# Altium schematic symbol library kmilo17pet-TI_BattMgmt.SchLib: 950 symbols (part 44 of 60)
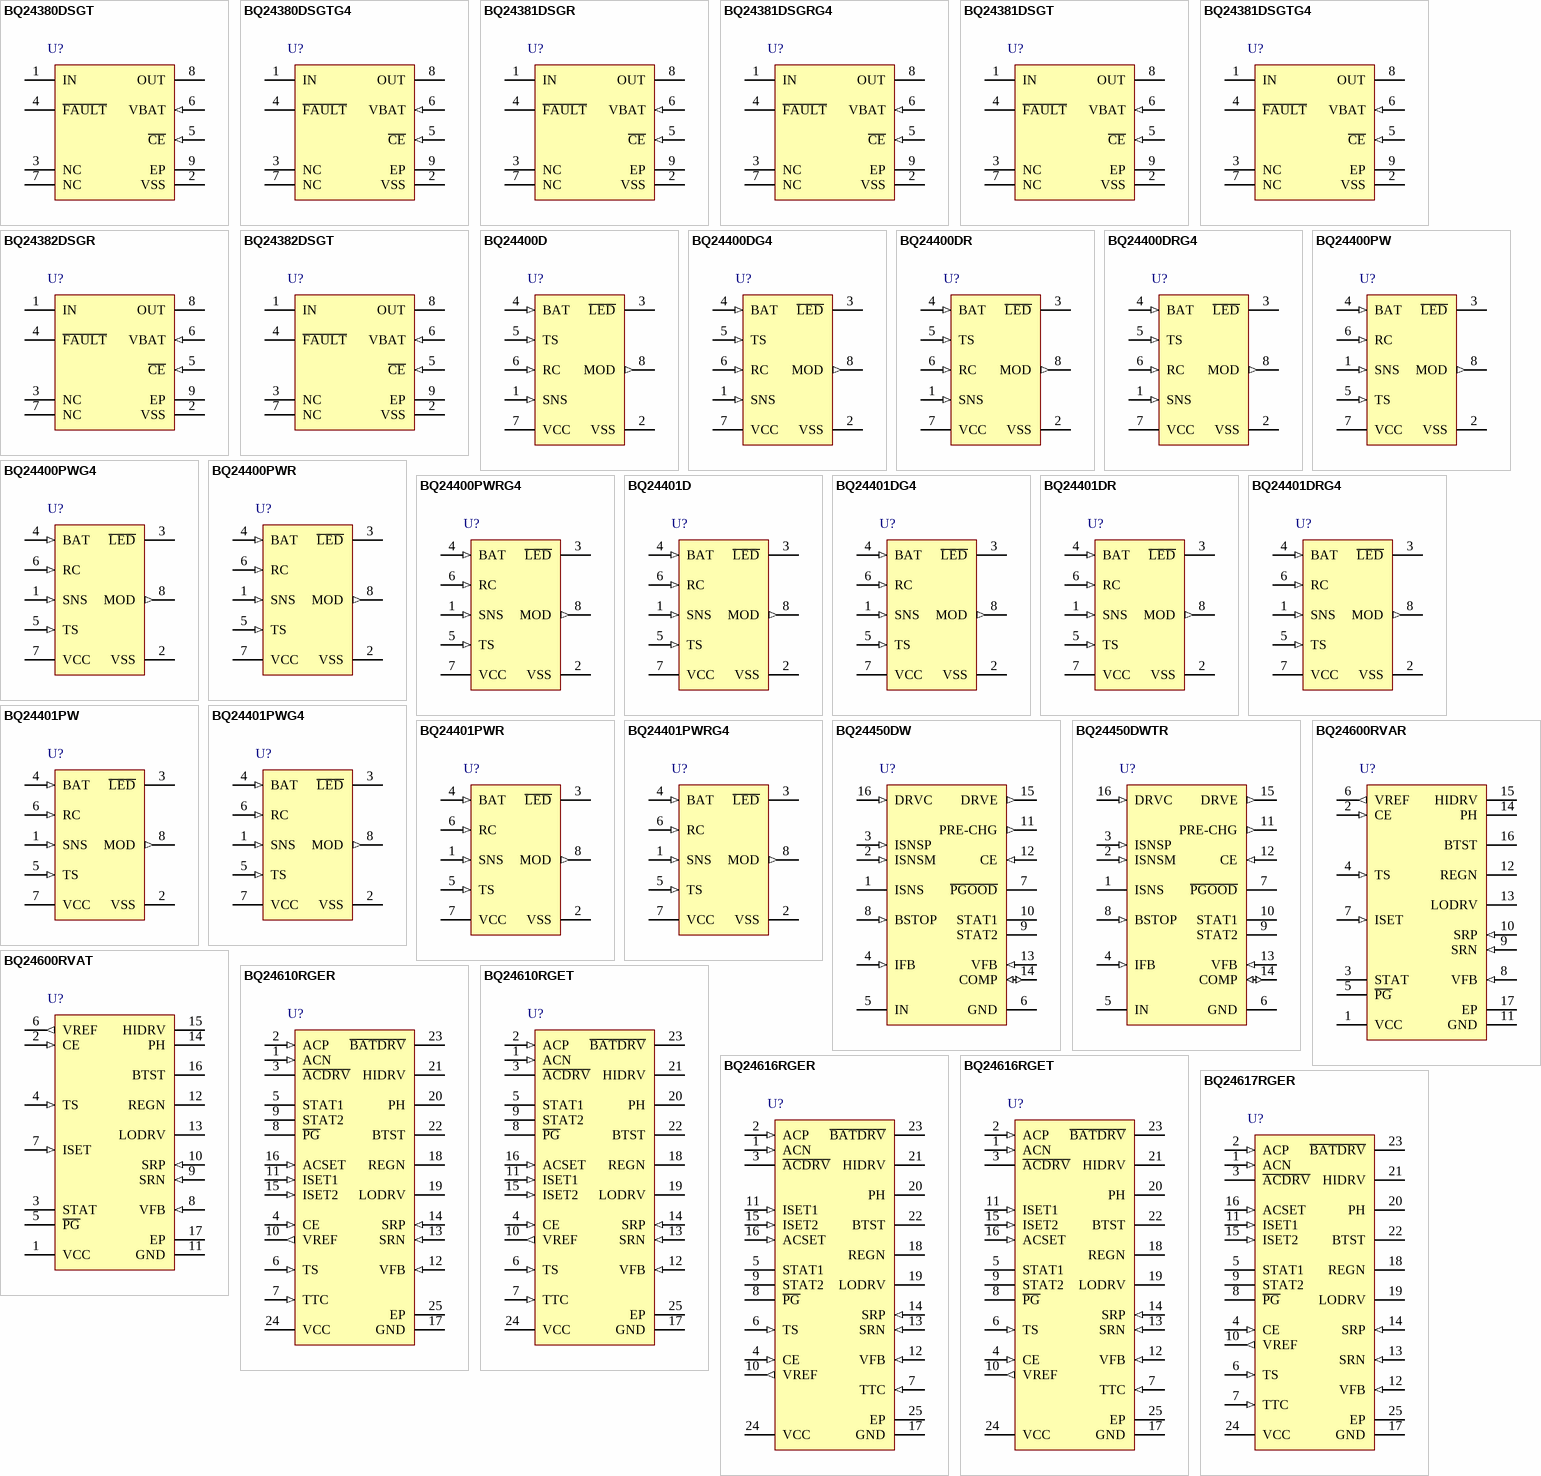
[diagram p77: symbols BQ24380DSGT to BQ24617RGER]

## BQ24381DSGT
designator U?
Overvoltage / Overcurrent Protection IC and Li+ Charger Front End Protection IC with LDO Mode, 7.1 OVP, -40 to 125 degC, 8-pin WSON (DSG), Green (RoHS & no Sb/Br); PartNumber: BQ24381DSGT; Manufacturer: Texas Instruments; Lead Acid: N; DatasheetVersion: SLUS805B; PackageVersion: revB, Oct-2010; PackageReference: DSG8-1600X900TP; PackageDescription: 8-Pin Plastic Small Outline No-Lead, 2 x 2 x 0.8 mm Body, 0.5 mm Pitch, Exposed Pad; Supplier 1: Digi-Key; Supplier Part Number 1: BQ24381DSGT-ND; Supplier Part Number 3: 595-BQ24381DSGT; Eco-Plan: Green (RoHS & no Sb/Br); Li-Ion: N; Li-Polymer: N; NiCd: N; NiMH: N; Over Voltage Protection: N; SubFamily: Charger Front End Protection; Mounting Technology: Surface Mount; Code_JEDEC: MO-229; ComponentLink1Description: Datasheet; ComponentLink1URL: http://www.ti.com/general/docs/lit/getliterature.tsp?genericPartNumber=BQ24381&fileType=pdf
footprint DSG8-1600X900TP (SON, 8-Leads, Body 2x2mm, Pitch 0.5mm, Thermal Pad 1.6x0.9mm, TI Recommended)
pins: 1 IN (power) "Input power, connected to external DC supply. Bypass IN to VSS with a ceramic capacitor (1 uF minimum)", 2 VSS (power) "Ground terminal. Connect to the thermal pad and to the ground rail of the circuit", 3 NC "Do not connect to any external circuits. These pins may have internal connections used for test purposes.", 4 ~{FAULT} (hiz) "Open-drain device status output. F\A\U\L\T\ is pulled to VSS internally when the input pass FET has been turned off due to input overvoltage or output short-circuit conditions, an overtemperature condition, or because the (See Datasheet)", 5 ~{CE} (in) "Active-low chip enable input. Connect C\E\ = HI to turn the input pass FET off. Connect C\E\ = LOW to turn the internal pass FET on and connect the input to the charging circuitry. C\E\ is Internally pulled down, ~200 k ohm.", 6 VBAT (in) "Battery voltage sense input. Connected to pack positive terminal through a 100-k ohm resistor", 7 NC "Do not connect to any external circuits. These pins may have internal connections used for test purposes.", 8 OUT (power) "Output terminal to the charging system. Bypass OUT to VSS with a ceramic capacitor (1 uF minimum)", 9 EP (power) "The thermal pad is electrically connected to VSS internally. The thermal pad must be connected to the same potential as the VSS pin on the printed circuit board. Do not use the thermal pad as the primary ground input for the (See Datasheet)"

## BQ24381DSGTG4
designator U?
Overvoltage / Overcurrent Protection IC and Li+ Charger Front End Protection IC with LDO Mode, 7.1 OVP, -40 to 125 degC, 8-pin WSON (DSG), Green (RoHS & no Sb/Br); PartNumber: BQ24381DSGTG4; Manufacturer: Texas Instruments; Lead Acid: N; DatasheetVersion: SLUS805B; PackageVersion: revB, Oct-2010; PackageReference: DSG8-1600X900TP; PackageDescription: 8-Pin Plastic Small Outline No-Lead, 2 x 2 x 0.8 mm Body, 0.5 mm Pitch, Exposed Pad; Supplier 1: Digi-Key; Supplier Part Number 1: BQ24381DSGTG4-ND; Eco-Plan: Green (RoHS & no Sb/Br); Li-Ion: N; Li-Polymer: N; NiCd: N; NiMH: N; Over Voltage Protection: N; SubFamily: Charger Front End Protection; Mounting Technology: Surface Mount; Code_JEDEC: MO-229; ComponentLink1Description: Datasheet; ComponentLink1URL: http://www.ti.com/general/docs/lit/getliterature.tsp?genericPartNumber=BQ24381&fileType=pdf
footprint DSG8-1600X900TP (SON, 8-Leads, Body 2x2mm, Pitch 0.5mm, Thermal Pad 1.6x0.9mm, TI Recommended)
pins: 1 IN (power) "Input power, connected to external DC supply. Bypass IN to VSS with a ceramic capacitor (1 uF minimum)", 2 VSS (power) "Ground terminal. Connect to the thermal pad and to the ground rail of the circuit", 3 NC "Do not connect to any external circuits. These pins may have internal connections used for test purposes.", 4 ~{FAULT} (hiz) "Open-drain device status output. F\A\U\L\T\ is pulled to VSS internally when the input pass FET has been turned off due to input overvoltage or output short-circuit conditions, an overtemperature condition, or because the (See Datasheet)", 5 ~{CE} (in) "Active-low chip enable input. Connect C\E\ = HI to turn the input pass FET off. Connect C\E\ = LOW to turn the internal pass FET on and connect the input to the charging circuitry. C\E\ is Internally pulled down, ~200 k ohm.", 6 VBAT (in) "Battery voltage sense input. Connected to pack positive terminal through a 100-k ohm resistor", 7 NC "Do not connect to any external circuits. These pins may have internal connections used for test purposes.", 8 OUT (power) "Output terminal to the charging system. Bypass OUT to VSS with a ceramic capacitor (1 uF minimum)", 9 EP (power) "The thermal pad is electrically connected to VSS internally. The thermal pad must be connected to the same potential as the VSS pin on the printed circuit board. Do not use the thermal pad as the primary ground input for the (See Datasheet)"

## BQ24382DSGR
designator U?
Overvoltage / Overcurrent Protection IC and Li+ Charger Front-End Protection IC with LDO Mode, 10.5 OVP, -40 to 125 degC, 8-pin WSON (DSG), Green (RoHS & no Sb/Br); PartNumber: BQ24382DSGR; Manufacturer: Texas Instruments; Lead Acid: N; SubFamily: Charger Front End Protection; DatasheetVersion: SLUS805B; PackageVersion: revB, Oct-2010; PackageReference: DSG8-1600X900TP; PackageDescription: 8-Pin Plastic Small Outline No-Lead, 2 x 2 x 0.8 mm Body, 0.5 mm Pitch, Exposed Pad; Supplier 1: Digi-Key; Supplier Part Number 1: 296-24248-2-ND; Supplier Part Number 3: 296-24248-6-ND; Eco-Plan: Green (RoHS & no Sb/Br); Li-Ion: N; Li-Polymer: N; NiCd: N; NiMH: N; Over Voltage Protection: N; Mounting Technology: Surface Mount; Code_JEDEC: MO-229; ComponentLink1Description: Datasheet; ComponentLink1URL: http://www.ti.com/general/docs/lit/getliterature.tsp?genericPartNumber=BQ24382&fileType=pdf
footprint DSG8-1600X900TP (SON, 8-Leads, Body 2x2mm, Pitch 0.5mm, Thermal Pad 1.6x0.9mm, TI Recommended)
pins: 1 IN (power) "Input power, connected to external DC supply. Bypass IN to VSS with a ceramic capacitor (1 uF minimum)", 2 VSS (power) "Ground terminal. Connect to the thermal pad and to the ground rail of the circuit", 3 NC "Do not connect to any external circuits. These pins may have internal connections used for test purposes.", 4 ~{FAULT} (hiz) "Open-drain device status output. F\A\U\L\T\ is pulled to VSS internally when the input pass FET has been turned off due to input overvoltage or output short-circuit conditions, an overtemperature condition, or because the (See Datasheet)", 5 ~{CE} (in) "Active-low chip enable input. Connect C\E\ = HI to turn the input pass FET off. Connect C\E\ = LOW to turn the internal pass FET on and connect the input to the charging circuitry. C\E\ is Internally pulled down, ~200 k ohm.", 6 VBAT (in) "Battery voltage sense input. Connected to pack positive terminal through a 100-k ohm resistor", 7 NC "Do not connect to any external circuits. These pins may have internal connections used for test purposes.", 8 OUT (power) "Output terminal to the charging system. Bypass OUT to VSS with a ceramic capacitor (1 uF minimum)", 9 EP (power) "The thermal pad is electrically connected to VSS internally. The thermal pad must be connected to the same potential as the VSS pin on the printed circuit board. Do not use the thermal pad as the primary ground input for the (See Datasheet)"

## BQ24382DSGT
designator U?
Overvoltage / Overcurrent Protection IC and Li+ Charger Front-End Protection IC with LDO Mode, 10.5 OVP, -40 to 125 degC, 8-pin WSON (DSG), Green (RoHS & no Sb/Br); PartNumber: BQ24382DSGT; Manufacturer: Texas Instruments; Lead Acid: N; SubFamily: Charger Front End Protection; DatasheetVersion: SLUS805B; PackageVersion: revB, Oct-2010; PackageReference: DSG8-1600X900TP; PackageDescription: 8-Pin Plastic Small Outline No-Lead, 2 x 2 x 0.8 mm Body, 0.5 mm Pitch, Exposed Pad; Supplier 1: Digi-Key; Supplier Part Number 1: BQ24382DSGT-ND; Eco-Plan: Green (RoHS & no Sb/Br); Li-Ion: N; Li-Polymer: N; NiCd: N; NiMH: N; Over Voltage Protection: N; Mounting Technology: Surface Mount; Code_JEDEC: MO-229; ComponentLink1Description: Datasheet; ComponentLink1URL: http://www.ti.com/general/docs/lit/getliterature.tsp?genericPartNumber=BQ24382&fileType=pdf
footprint DSG8-1600X900TP (SON, 8-Leads, Body 2x2mm, Pitch 0.5mm, Thermal Pad 1.6x0.9mm, TI Recommended)
pins: 1 IN (power) "Input power, connected to external DC supply. Bypass IN to VSS with a ceramic capacitor (1 uF minimum)", 2 VSS (power) "Ground terminal. Connect to the thermal pad and to the ground rail of the circuit", 3 NC "Do not connect to any external circuits. These pins may have internal connections used for test purposes.", 4 ~{FAULT} (hiz) "Open-drain device status output. F\A\U\L\T\ is pulled to VSS internally when the input pass FET has been turned off due to input overvoltage or output short-circuit conditions, an overtemperature condition, or because the (See Datasheet)", 5 ~{CE} (in) "Active-low chip enable input. Connect C\E\ = HI to turn the input pass FET off. Connect C\E\ = LOW to turn the internal pass FET on and connect the input to the charging circuitry. C\E\ is Internally pulled down, ~200 k ohm.", 6 VBAT (in) "Battery voltage sense input. Connected to pack positive terminal through a 100-k ohm resistor", 7 NC "Do not connect to any external circuits. These pins may have internal connections used for test purposes.", 8 OUT (power) "Output terminal to the charging system. Bypass OUT to VSS with a ceramic capacitor (1 uF minimum)", 9 EP (power) "The thermal pad is electrically connected to VSS internally. The thermal pad must be connected to the same potential as the VSS pin on the printed circuit board. Do not use the thermal pad as the primary ground input for the (See Datasheet)"

## BQ24400D
designator U?
Switch-Mode NiCd / NiMH Battery Charger with Peak Voltage Detection Termination, 4 V, -20 to 70 degC, 8-pin SOIC (D), Green (RoHS & no Sb/Br); PartNumber: BQ24400D; Manufacturer: Texas Instruments; Lead Acid: N; NiCd: Y; SubFamily: Battery Charge Management; Vin(Min)(V): 4; DatasheetVersion: SLUS498A; PackageVersion: revM, Jun-2011; PackageReference: D8; PackageDescription: 8-Pin Plastic Small Outline Integrated Circuit, 4.9 x 3.9 mm, Pitch 1.27 mm Pitch; Supplier 1: Digi-Key; Supplier Part Number 1: 296-12622-5-ND; Supplier Part Number 3: 595-BQ24400D; Eco-Plan: Green (RoHS & no Sb/Br); Li-Ion: N; Li-Polymer: N; NiMH: Y; Over Voltage Protection: N; Mounting Technology: Surface Mount; Code_JEDEC: MS-012AA; ComponentLink1Description: Datasheet; ComponentLink1URL: http://www.ti.com/general/docs/lit/getliterature.tsp?genericPartNumber=BQ24400&fileType=pdf
footprint D8_N (SOIC, 8-Leads, Body 4.9x3.9mm, Pitch 1.27mm, IPC Medium Density)
footprint D8_L (SOIC, 8-Leads, Body 4.9x3.9mm, Pitch 1.27mm, IPC High Density)
footprint D8_M (SOIC, 8-Leads, Body 4.9x3.9mm, Pitch 1.27mm, IPC Low Density)
pins: 1 SNS (in) "Current-sense input", 2 VSS (power) "System ground", 3 ~{LED} (hiz) "Charge-status output", 4 BAT (in) "Battery-voltage input", 5 TS (in) "Temperature-sense input", 6 RC (in) "Timer-program input", 7 VCC (power) "Supply-voltage input", 8 MOD (out) "Modulation-control output"

## BQ24400DG4
designator U?
Switch-Mode NiCd / NiMH Battery Charger with Peak Voltage Detection Termination, 4 V, -20 to 70 degC, 8-pin SOIC (D), Green (RoHS & no Sb/Br); PartNumber: BQ24400DG4; Manufacturer: Texas Instruments; Lead Acid: N; NiCd: Y; SubFamily: Battery Charge Management; Vin(Min)(V): 4; DatasheetVersion: SLUS498A; PackageVersion: revM, Jun-2011; PackageReference: D8; PackageDescription: 8-Pin Plastic Small Outline Integrated Circuit, 4.9 x 3.9 mm, Pitch 1.27 mm Pitch; Supplier 1: Digi-Key; Supplier Part Number 1: BQ24400DG4-ND; Supplier Part Number 3: 595-BQ24400DG4; Eco-Plan: Green (RoHS & no Sb/Br); Li-Ion: N; Li-Polymer: N; NiMH: Y; Over Voltage Protection: N; Mounting Technology: Surface Mount; Code_JEDEC: MS-012AA; ComponentLink1Description: Datasheet; ComponentLink1URL: http://www.ti.com/general/docs/lit/getliterature.tsp?genericPartNumber=BQ24400&fileType=pdf
footprint D8_N (SOIC, 8-Leads, Body 4.9x3.9mm, Pitch 1.27mm, IPC Medium Density)
footprint D8_L (SOIC, 8-Leads, Body 4.9x3.9mm, Pitch 1.27mm, IPC High Density)
footprint D8_M (SOIC, 8-Leads, Body 4.9x3.9mm, Pitch 1.27mm, IPC Low Density)
pins: 1 SNS (in) "Current-sense input", 2 VSS (power) "System ground", 3 ~{LED} (hiz) "Charge-status output", 4 BAT (in) "Battery-voltage input", 5 TS (in) "Temperature-sense input", 6 RC (in) "Timer-program input", 7 VCC (power) "Supply-voltage input", 8 MOD (out) "Modulation-control output"

## BQ24400DR
designator U?
Switch-Mode NiCd / NiMH Battery Charger with Peak Voltage Detection Termination, 4 V, -20 to 70 degC, 8-pin SOIC (D), Green (RoHS & no Sb/Br); PartNumber: BQ24400DR; Manufacturer: Texas Instruments; Lead Acid: N; NiCd: Y; SubFamily: Battery Charge Management; Vin(Min)(V): 4; DatasheetVersion: SLUS498A; PackageVersion: revM, Jun-2011; PackageReference: D8; PackageDescription: 8-Pin Plastic Small Outline Integrated Circuit, 4.9 x 3.9 mm, Pitch 1.27 mm Pitch; Supplier 1: Digi-Key; Supplier Part Number 1: 296-29457-2-ND; Supplier Part Number 3: 296-29457-6-ND; Eco-Plan: Green (RoHS & no Sb/Br); Li-Ion: N; Li-Polymer: N; NiMH: Y; Over Voltage Protection: N; Mounting Technology: Surface Mount; Code_JEDEC: MS-012AA; ComponentLink1Description: Datasheet; ComponentLink1URL: http://www.ti.com/general/docs/lit/getliterature.tsp?genericPartNumber=BQ24400&fileType=pdf
footprint D8_N (SOIC, 8-Leads, Body 4.9x3.9mm, Pitch 1.27mm, IPC Medium Density)
footprint D8_L (SOIC, 8-Leads, Body 4.9x3.9mm, Pitch 1.27mm, IPC High Density)
footprint D8_M (SOIC, 8-Leads, Body 4.9x3.9mm, Pitch 1.27mm, IPC Low Density)
pins: 1 SNS (in) "Current-sense input", 2 VSS (power) "System ground", 3 ~{LED} (hiz) "Charge-status output", 4 BAT (in) "Battery-voltage input", 5 TS (in) "Temperature-sense input", 6 RC (in) "Timer-program input", 7 VCC (power) "Supply-voltage input", 8 MOD (out) "Modulation-control output"

## BQ24400DRG4
designator U?
Switch-Mode NiCd / NiMH Battery Charger with Peak Voltage Detection Termination, 4 V, -20 to 70 degC, 8-pin SOIC (D), Green (RoHS & no Sb/Br); PartNumber: BQ24400DRG4; Manufacturer: Texas Instruments; Lead Acid: N; NiCd: Y; SubFamily: Battery Charge Management; Vin(Min)(V): 4; DatasheetVersion: SLUS498A; PackageVersion: revM, Jun-2011; PackageReference: D8; PackageDescription: 8-Pin Plastic Small Outline Integrated Circuit, 4.9 x 3.9 mm, Pitch 1.27 mm Pitch; Supplier 1: Digi-Key; Supplier Part Number 1: BQ24400DRG4-ND; Supplier Part Number 3: 595-BQ24400DRG4; Eco-Plan: Green (RoHS & no Sb/Br); Li-Ion: N; Li-Polymer: N; NiMH: Y; Over Voltage Protection: N; Mounting Technology: Surface Mount; Code_JEDEC: MS-012AA; ComponentLink1Description: Datasheet; ComponentLink1URL: http://www.ti.com/general/docs/lit/getliterature.tsp?genericPartNumber=BQ24400&fileType=pdf
footprint D8_N (SOIC, 8-Leads, Body 4.9x3.9mm, Pitch 1.27mm, IPC Medium Density)
footprint D8_L (SOIC, 8-Leads, Body 4.9x3.9mm, Pitch 1.27mm, IPC High Density)
footprint D8_M (SOIC, 8-Leads, Body 4.9x3.9mm, Pitch 1.27mm, IPC Low Density)
pins: 1 SNS (in) "Current-sense input", 2 VSS (power) "System ground", 3 ~{LED} (hiz) "Charge-status output", 4 BAT (in) "Battery-voltage input", 5 TS (in) "Temperature-sense input", 6 RC (in) "Timer-program input", 7 VCC (power) "Supply-voltage input", 8 MOD (out) "Modulation-control output"

## BQ24400PW
designator U?
Switch-Mode NiCd / NiMH Battery Charger with Peak Voltage Detection Termination, 4 V, -20 to 70 degC, 8-pin TSSOP (PW), Green (RoHS & no Sb/Br); PartNumber: BQ24400PW; Manufacturer: Texas Instruments; Lead Acid: N; NiCd: Y; SubFamily: Battery Charge Management; Vin(Min)(V): 4; DatasheetVersion: SLUS498A; PackageVersion: revG, Feb-2011; PackageReference: PW8; PackageDescription: 8-Pin Plastic Thin Small Outline Package 3 x 4.4 mm Body ,0.65 mm Pitch; Supplier 1: Digi-Key; Supplier Part Number 1: 296-12623-5-ND; Supplier Part Number 3: 595-BQ24400PW; Eco-Plan: Green (RoHS & no Sb/Br); Li-Ion: N; Li-Polymer: N; NiMH: Y; Over Voltage Protection: N; Mounting Technology: Surface Mount; Code_JEDEC: MO-153; ComponentLink1Description: Datasheet; ComponentLink1URL: http://www.ti.com/general/docs/lit/getliterature.tsp?genericPartNumber=BQ24400&fileType=pdf
footprint PW8_N (TSOP, 8-Leads, Body 3x4.4mm, Pitch 0.65mm, IPC Medium Density)
footprint PW8_L (TSOP, 8-Leads, Body 3x4.4mm, Pitch 0.65mm, IPC High Density)
footprint PW8_M (TSOP, 8-Leads, Body 3x4.4mm, Pitch 0.65mm, IPC Low Density)
pins: 1 SNS (in) "Current-sense input", 2 VSS (power) "System ground", 3 ~{LED} (hiz) "Charge-status output", 4 BAT (in) "Battery-voltage input", 5 TS (in) "Temperature-sense input", 6 RC (in) "Timer-program input", 7 VCC (power) "Supply-voltage input", 8 MOD (out) "Modulation-control output"

## BQ24400PWG4
designator U?
Switch-Mode NiCd / NiMH Battery Charger with Peak Voltage Detection Termination, 4 V, -20 to 70 degC, 8-pin TSSOP (PW), Green (RoHS & no Sb/Br); PartNumber: BQ24400PWG4; Manufacturer: Texas Instruments; Lead Acid: N; NiCd: Y; SubFamily: Battery Charge Management; Vin(Min)(V): 4; DatasheetVersion: SLUS498A; PackageVersion: revG, Feb-2011; PackageReference: PW8; PackageDescription: 8-Pin Plastic Thin Small Outline Package 3 x 4.4 mm Body ,0.65 mm Pitch; Supplier 1: Digi-Key; Supplier Part Number 1: BQ24400PWG4-ND; Supplier Part Number 3: 595-BQ24400PWG4; Eco-Plan: Green (RoHS & no Sb/Br); Li-Ion: N; Li-Polymer: N; NiMH: Y; Over Voltage Protection: N; Mounting Technology: Surface Mount; Code_JEDEC: MO-153; ComponentLink1Description: Datasheet; ComponentLink1URL: http://www.ti.com/general/docs/lit/getliterature.tsp?genericPartNumber=BQ24400&fileType=pdf
footprint PW8_N (TSOP, 8-Leads, Body 3x4.4mm, Pitch 0.65mm, IPC Medium Density)
footprint PW8_L (TSOP, 8-Leads, Body 3x4.4mm, Pitch 0.65mm, IPC High Density)
footprint PW8_M (TSOP, 8-Leads, Body 3x4.4mm, Pitch 0.65mm, IPC Low Density)
pins: 1 SNS (in) "Current-sense input", 2 VSS (power) "System ground", 3 ~{LED} (hiz) "Charge-status output", 4 BAT (in) "Battery-voltage input", 5 TS (in) "Temperature-sense input", 6 RC (in) "Timer-program input", 7 VCC (power) "Supply-voltage input", 8 MOD (out) "Modulation-control output"

## BQ24400PWR
designator U?
Switch-Mode NiCd / NiMH Battery Charger with Peak Voltage Detection Termination, 4 V, -20 to 70 degC, 8-pin TSSOP (PW), Green (RoHS & no Sb/Br); PartNumber: BQ24400PWR; Manufacturer: Texas Instruments; Lead Acid: N; NiCd: Y; SubFamily: Battery Charge Management; Vin(Min)(V): 4; DatasheetVersion: SLUS498A; PackageVersion: revG, Feb-2011; PackageReference: PW8; PackageDescription: 8-Pin Plastic Thin Small Outline Package 3 x 4.4 mm Body ,0.65 mm Pitch; Supplier 1: Digi-Key; Supplier Part Number 1: BQ24400PWR-ND; Supplier Part Number 3: 595-BQ24400PWR; Eco-Plan: Green (RoHS & no Sb/Br); Li-Ion: N; Li-Polymer: N; NiMH: Y; Over Voltage Protection: N; Mounting Technology: Surface Mount; Code_JEDEC: MO-153; ComponentLink1Description: Datasheet; ComponentLink1URL: http://www.ti.com/general/docs/lit/getliterature.tsp?genericPartNumber=BQ24400&fileType=pdf
footprint PW8_N (TSOP, 8-Leads, Body 3x4.4mm, Pitch 0.65mm, IPC Medium Density)
footprint PW8_L (TSOP, 8-Leads, Body 3x4.4mm, Pitch 0.65mm, IPC High Density)
footprint PW8_M (TSOP, 8-Leads, Body 3x4.4mm, Pitch 0.65mm, IPC Low Density)
pins: 1 SNS (in) "Current-sense input", 2 VSS (power) "System ground", 3 ~{LED} (hiz) "Charge-status output", 4 BAT (in) "Battery-voltage input", 5 TS (in) "Temperature-sense input", 6 RC (in) "Timer-program input", 7 VCC (power) "Supply-voltage input", 8 MOD (out) "Modulation-control output"

## BQ24400PWRG4
designator U?
Switch-Mode NiCd / NiMH Battery Charger with Peak Voltage Detection Termination, 4 V, -20 to 70 degC, 8-pin TSSOP (PW), Green (RoHS & no Sb/Br); PartNumber: BQ24400PWRG4; Manufacturer: Texas Instruments; Lead Acid: N; NiCd: Y; SubFamily: Battery Charge Management; Vin(Min)(V): 4; DatasheetVersion: SLUS498A; PackageVersion: revG, Feb-2011; PackageReference: PW8; PackageDescription: 8-Pin Plastic Thin Small Outline Package 3 x 4.4 mm Body ,0.65 mm Pitch; Supplier 1: Digi-Key; Supplier Part Number 1: BQ24400PWRG4-ND; Supplier Part Number 3: 595-BQ24400PWRG4; Eco-Plan: Green (RoHS & no Sb/Br); Li-Ion: N; Li-Polymer: N; NiMH: Y; Over Voltage Protection: N; Mounting Technology: Surface Mount; Code_JEDEC: MO-153; ComponentLink1Description: Datasheet; ComponentLink1URL: http://www.ti.com/general/docs/lit/getliterature.tsp?genericPartNumber=BQ24400&fileType=pdf
footprint PW8_N (TSOP, 8-Leads, Body 3x4.4mm, Pitch 0.65mm, IPC Medium Density)
footprint PW8_L (TSOP, 8-Leads, Body 3x4.4mm, Pitch 0.65mm, IPC High Density)
footprint PW8_M (TSOP, 8-Leads, Body 3x4.4mm, Pitch 0.65mm, IPC Low Density)
pins: 1 SNS (in) "Current-sense input", 2 VSS (power) "System ground", 3 ~{LED} (hiz) "Charge-status output", 4 BAT (in) "Battery-voltage input", 5 TS (in) "Temperature-sense input", 6 RC (in) "Timer-program input", 7 VCC (power) "Supply-voltage input", 8 MOD (out) "Modulation-control output"

## BQ24401D
designator U?
Switch-Mode NiCd / NiMH Battery Charger with dT / dt Termination, 4 V, -20 to 70 degC, 8-pin SOIC (D), Green (RoHS & no Sb/Br); PartNumber: BQ24401D; Manufacturer: Texas Instruments; Lead Acid: N; NiCd: Y; SubFamily: Battery Charge Management; Vin(Min)(V): 4; DatasheetVersion: SLUS497A; PackageVersion: revM, Jun-2011; PackageReference: D8; PackageDescription: 8-Pin Plastic Small Outline Integrated Circuit, 4.9 x 3.9 mm, Pitch 1.27 mm Pitch; Supplier 1: Digi-Key; Supplier Part Number 1: 296-12624-5-ND; Supplier Part Number 3: 595-BQ24401D; Eco-Plan: Green (RoHS & no Sb/Br); Li-Ion: N; Li-Polymer: N; NiMH: Y; Over Voltage Protection: N; Mounting Technology: Surface Mount; Code_JEDEC: MS-012AA; ComponentLink1Description: Datasheet; ComponentLink1URL: http://www.ti.com/general/docs/lit/getliterature.tsp?genericPartNumber=BQ24401&fileType=pdf
footprint D8_N (SOIC, 8-Leads, Body 4.9x3.9mm, Pitch 1.27mm, IPC Medium Density)
footprint D8_L (SOIC, 8-Leads, Body 4.9x3.9mm, Pitch 1.27mm, IPC High Density)
footprint D8_M (SOIC, 8-Leads, Body 4.9x3.9mm, Pitch 1.27mm, IPC Low Density)
pins: 1 SNS (in) "Current-sense input", 2 VSS (power) "System ground", 3 ~{LED} (hiz) "Charge-status output", 4 BAT (in) "Battery-voltage input", 5 TS (in) "Temperature-sense input", 6 RC (in) "Timer-program input", 7 VCC (power) "Supply-voltage input", 8 MOD (out) "Modulation-control output"

## BQ24401DG4
designator U?
Switch-Mode NiCd / NiMH Battery Charger with dT / dt Termination, 4 V, -20 to 70 degC, 8-pin SOIC (D), Green (RoHS & no Sb/Br); PartNumber: BQ24401DG4; Manufacturer: Texas Instruments; Lead Acid: N; NiCd: Y; SubFamily: Battery Charge Management; Vin(Min)(V): 4; DatasheetVersion: SLUS497A; PackageVersion: revM, Jun-2011; PackageReference: D8; PackageDescription: 8-Pin Plastic Small Outline Integrated Circuit, 4.9 x 3.9 mm, Pitch 1.27 mm Pitch; Supplier 1: Digi-Key; Supplier Part Number 1: BQ24401DG4-ND; Supplier Part Number 3: 595-BQ24401DG4; Eco-Plan: Green (RoHS & no Sb/Br); Li-Ion: N; Li-Polymer: N; NiMH: Y; Over Voltage Protection: N; Mounting Technology: Surface Mount; Code_JEDEC: MS-012AA; ComponentLink1Description: Datasheet; ComponentLink1URL: http://www.ti.com/general/docs/lit/getliterature.tsp?genericPartNumber=BQ24401&fileType=pdf
footprint D8_N (SOIC, 8-Leads, Body 4.9x3.9mm, Pitch 1.27mm, IPC Medium Density)
footprint D8_L (SOIC, 8-Leads, Body 4.9x3.9mm, Pitch 1.27mm, IPC High Density)
footprint D8_M (SOIC, 8-Leads, Body 4.9x3.9mm, Pitch 1.27mm, IPC Low Density)
pins: 1 SNS (in) "Current-sense input", 2 VSS (power) "System ground", 3 ~{LED} (hiz) "Charge-status output", 4 BAT (in) "Battery-voltage input", 5 TS (in) "Temperature-sense input", 6 RC (in) "Timer-program input", 7 VCC (power) "Supply-voltage input", 8 MOD (out) "Modulation-control output"

## BQ24401DR
designator U?
Switch-Mode NiCd / NiMH Battery Charger with dT / dt Termination, 4 V, -20 to 70 degC, 8-pin SOIC (D), Green (RoHS & no Sb/Br); PartNumber: BQ24401DR; Manufacturer: Texas Instruments; Lead Acid: N; NiCd: Y; SubFamily: Battery Charge Management; Vin(Min)(V): 4; DatasheetVersion: SLUS497A; PackageVersion: revM, Jun-2011; PackageReference: D8; PackageDescription: 8-Pin Plastic Small Outline Integrated Circuit, 4.9 x 3.9 mm, Pitch 1.27 mm Pitch; Supplier 1: Digi-Key; Supplier Part Number 1: BQ24401DR-ND; Supplier Part Number 3: 595-BQ24401DR; Eco-Plan: Green (RoHS & no Sb/Br); Li-Ion: N; Li-Polymer: N; NiMH: Y; Over Voltage Protection: N; Mounting Technology: Surface Mount; Code_JEDEC: MS-012AA; ComponentLink1Description: Datasheet; ComponentLink1URL: http://www.ti.com/general/docs/lit/getliterature.tsp?genericPartNumber=BQ24401&fileType=pdf
footprint D8_N (SOIC, 8-Leads, Body 4.9x3.9mm, Pitch 1.27mm, IPC Medium Density)
footprint D8_L (SOIC, 8-Leads, Body 4.9x3.9mm, Pitch 1.27mm, IPC High Density)
footprint D8_M (SOIC, 8-Leads, Body 4.9x3.9mm, Pitch 1.27mm, IPC Low Density)
pins: 1 SNS (in) "Current-sense input", 2 VSS (power) "System ground", 3 ~{LED} (hiz) "Charge-status output", 4 BAT (in) "Battery-voltage input", 5 TS (in) "Temperature-sense input", 6 RC (in) "Timer-program input", 7 VCC (power) "Supply-voltage input", 8 MOD (out) "Modulation-control output"

## BQ24401DRG4
designator U?
Switch-Mode NiCd / NiMH Battery Charger with dT / dt Termination, 4 V, -20 to 70 degC, 8-pin SOIC (D), Green (RoHS & no Sb/Br); PartNumber: BQ24401DRG4; Manufacturer: Texas Instruments; Lead Acid: N; NiCd: Y; SubFamily: Battery Charge Management; Vin(Min)(V): 4; DatasheetVersion: SLUS497A; PackageVersion: revM, Jun-2011; PackageReference: D8; PackageDescription: 8-Pin Plastic Small Outline Integrated Circuit, 4.9 x 3.9 mm, Pitch 1.27 mm Pitch; Supplier 1: Digi-Key; Supplier Part Number 1: BQ24401DRG4-ND; Supplier Part Number 3: 595-BQ24401DRG4; Eco-Plan: Green (RoHS & no Sb/Br); Li-Ion: N; Li-Polymer: N; NiMH: Y; Over Voltage Protection: N; Mounting Technology: Surface Mount; Code_JEDEC: MS-012AA; ComponentLink1Description: Datasheet; ComponentLink1URL: http://www.ti.com/general/docs/lit/getliterature.tsp?genericPartNumber=BQ24401&fileType=pdf
footprint D8_N (SOIC, 8-Leads, Body 4.9x3.9mm, Pitch 1.27mm, IPC Medium Density)
footprint D8_L (SOIC, 8-Leads, Body 4.9x3.9mm, Pitch 1.27mm, IPC High Density)
footprint D8_M (SOIC, 8-Leads, Body 4.9x3.9mm, Pitch 1.27mm, IPC Low Density)
pins: 1 SNS (in) "Current-sense input", 2 VSS (power) "System ground", 3 ~{LED} (hiz) "Charge-status output", 4 BAT (in) "Battery-voltage input", 5 TS (in) "Temperature-sense input", 6 RC (in) "Timer-program input", 7 VCC (power) "Supply-voltage input", 8 MOD (out) "Modulation-control output"

## BQ24401PW
designator U?
Switch-Mode NiCd / NiMH Battery Charger with dT / dt Termination, 4 V, -20 to 70 degC, 8-pin TSSOP (PW), Green (RoHS & no Sb/Br); PartNumber: BQ24401PW; Manufacturer: Texas Instruments; Lead Acid: N; NiCd: Y; SubFamily: Battery Charge Management; Vin(Min)(V): 4; DatasheetVersion: SLUS497A; PackageVersion: revG, Feb-2011; PackageReference: PW8; PackageDescription: 8-Pin Plastic Thin Small Outline Package 3 x 4.4 mm Body ,0.65 mm Pitch; Supplier 1: Digi-Key; Supplier Part Number 1: 296-12625-5-ND; Supplier Part Number 3: 595-BQ24401PW; Eco-Plan: Green (RoHS & no Sb/Br); Li-Ion: N; Li-Polymer: N; NiMH: Y; Over Voltage Protection: N; Mounting Technology: Surface Mount; Code_JEDEC: MO-153; ComponentLink1Description: Datasheet; ComponentLink1URL: http://www.ti.com/general/docs/lit/getliterature.tsp?genericPartNumber=BQ24401&fileType=pdf
footprint PW8_N (TSOP, 8-Leads, Body 3x4.4mm, Pitch 0.65mm, IPC Medium Density)
footprint PW8_L (TSOP, 8-Leads, Body 3x4.4mm, Pitch 0.65mm, IPC High Density)
footprint PW8_M (TSOP, 8-Leads, Body 3x4.4mm, Pitch 0.65mm, IPC Low Density)
pins: 1 SNS (in) "Current-sense input", 2 VSS (power) "System ground", 3 ~{LED} (hiz) "Charge-status output", 4 BAT (in) "Battery-voltage input", 5 TS (in) "Temperature-sense input", 6 RC (in) "Timer-program input", 7 VCC (power) "Supply-voltage input", 8 MOD (out) "Modulation-control output"

## BQ24401PWG4
designator U?
Switch-Mode NiCd / NiMH Battery Charger with dT / dt Termination, 4 V, -20 to 70 degC, 8-pin TSSOP (PW), Green (RoHS & no Sb/Br); PartNumber: BQ24401PWG4; Manufacturer: Texas Instruments; Lead Acid: N; NiCd: Y; SubFamily: Battery Charge Management; Vin(Min)(V): 4; DatasheetVersion: SLUS497A; PackageVersion: revG, Feb-2011; PackageReference: PW8; PackageDescription: 8-Pin Plastic Thin Small Outline Package 3 x 4.4 mm Body ,0.65 mm Pitch; Supplier 1: Digi-Key; Supplier Part Number 1: BQ24401PWG4-ND; Supplier Part Number 3: 595-BQ24401PWG4; Eco-Plan: Green (RoHS & no Sb/Br); Li-Ion: N; Li-Polymer: N; NiMH: Y; Over Voltage Protection: N; Mounting Technology: Surface Mount; Code_JEDEC: MO-153; ComponentLink1Description: Datasheet; ComponentLink1URL: http://www.ti.com/general/docs/lit/getliterature.tsp?genericPartNumber=BQ24401&fileType=pdf
footprint PW8_N (TSOP, 8-Leads, Body 3x4.4mm, Pitch 0.65mm, IPC Medium Density)
footprint PW8_L (TSOP, 8-Leads, Body 3x4.4mm, Pitch 0.65mm, IPC High Density)
footprint PW8_M (TSOP, 8-Leads, Body 3x4.4mm, Pitch 0.65mm, IPC Low Density)
pins: 1 SNS (in) "Current-sense input", 2 VSS (power) "System ground", 3 ~{LED} (hiz) "Charge-status output", 4 BAT (in) "Battery-voltage input", 5 TS (in) "Temperature-sense input", 6 RC (in) "Timer-program input", 7 VCC (power) "Supply-voltage input", 8 MOD (out) "Modulation-control output"

## BQ24401PWR
designator U?
Switch-Mode NiCd / NiMH Battery Charger with dT / dt Termination, 4 V, -20 to 70 degC, 8-pin TSSOP (PW), Green (RoHS & no Sb/Br); PartNumber: BQ24401PWR; Manufacturer: Texas Instruments; Lead Acid: N; NiCd: Y; SubFamily: Battery Charge Management; Vin(Min)(V): 4; DatasheetVersion: SLUS497A; PackageVersion: revG, Feb-2011; PackageReference: PW8; PackageDescription: 8-Pin Plastic Thin Small Outline Package 3 x 4.4 mm Body ,0.65 mm Pitch; Supplier 1: Digi-Key; Supplier Part Number 1: BQ24401PWR-ND; Supplier Part Number 3: 595-BQ24401PWR; Eco-Plan: Green (RoHS & no Sb/Br); Li-Ion: N; Li-Polymer: N; NiMH: Y; Over Voltage Protection: N; Mounting Technology: Surface Mount; Code_JEDEC: MO-153; ComponentLink1Description: Datasheet; ComponentLink1URL: http://www.ti.com/general/docs/lit/getliterature.tsp?genericPartNumber=BQ24401&fileType=pdf
footprint PW8_N (TSOP, 8-Leads, Body 3x4.4mm, Pitch 0.65mm, IPC Medium Density)
footprint PW8_L (TSOP, 8-Leads, Body 3x4.4mm, Pitch 0.65mm, IPC High Density)
footprint PW8_M (TSOP, 8-Leads, Body 3x4.4mm, Pitch 0.65mm, IPC Low Density)
pins: 1 SNS (in) "Current-sense input", 2 VSS (power) "System ground", 3 ~{LED} (hiz) "Charge-status output", 4 BAT (in) "Battery-voltage input", 5 TS (in) "Temperature-sense input", 6 RC (in) "Timer-program input", 7 VCC (power) "Supply-voltage input", 8 MOD (out) "Modulation-control output"

## BQ24401PWRG4
designator U?
Switch-Mode NiCd / NiMH Battery Charger with dT / dt Termination, 4 V, -20 to 70 degC, 8-pin TSSOP (PW), Green (RoHS & no Sb/Br); PartNumber: BQ24401PWRG4; Manufacturer: Texas Instruments; Lead Acid: N; NiCd: Y; SubFamily: Battery Charge Management; Vin(Min)(V): 4; DatasheetVersion: SLUS497A; PackageVersion: revG, Feb-2011; PackageReference: PW8; PackageDescription: 8-Pin Plastic Thin Small Outline Package 3 x 4.4 mm Body ,0.65 mm Pitch; Supplier 1: Digi-Key; Supplier Part Number 1: BQ24401PWRG4-ND; Supplier Part Number 3: 595-BQ24401PWRG4; Eco-Plan: Green (RoHS & no Sb/Br); Li-Ion: N; Li-Polymer: N; NiMH: Y; Over Voltage Protection: N; Mounting Technology: Surface Mount; Code_JEDEC: MO-153; ComponentLink1Description: Datasheet; ComponentLink1URL: http://www.ti.com/general/docs/lit/getliterature.tsp?genericPartNumber=BQ24401&fileType=pdf
footprint PW8_N (TSOP, 8-Leads, Body 3x4.4mm, Pitch 0.65mm, IPC Medium Density)
footprint PW8_L (TSOP, 8-Leads, Body 3x4.4mm, Pitch 0.65mm, IPC High Density)
footprint PW8_M (TSOP, 8-Leads, Body 3x4.4mm, Pitch 0.65mm, IPC Low Density)
pins: 1 SNS (in) "Current-sense input", 2 VSS (power) "System ground", 3 ~{LED} (hiz) "Charge-status output", 4 BAT (in) "Battery-voltage input", 5 TS (in) "Temperature-sense input", 6 RC (in) "Timer-program input", 7 VCC (power) "Supply-voltage input", 8 MOD (out) "Modulation-control output"

## BQ24450DW
designator U?
Integrated Charge Controller for Lead-Acid Batteries, 5 V, 16-pin SOIC (DW), Green (RoHS & no Sb/Br); PartNumber: BQ24450DW; Manufacturer: Texas Instruments; Lead Acid: N; SubFamily: Battery Charge Management; Vin(Min)(V): 5; DatasheetVersion: SLUS929C; PackageVersion: revG, Jan-2011; PackageReference: DW16; PackageDescription: 16-Pin Small Outline Integrated Circuit, 10.3 x 7.5 mm, Pitch 1.27 mm Pitch; Supplier 1: Digi-Key; Supplier Part Number 1: 296-32836-5-ND; Supplier Part Number 3: 50R4985; Eco-Plan: Green (RoHS & no Sb/Br); Li-Ion: N; Li-Polymer: N; NiCd: N; NiMH: N; Over Voltage Protection: N; Mounting Technology: Surface Mount; Code_JEDEC: MS-013-AA; ComponentLink1Description: Datasheet; ComponentLink1URL: http://www.ti.com/general/docs/lit/getliterature.tsp?genericPartNumber=BQ24450&fileType=pdf
footprint DW16_N (SOIC, 16-Leads, Body 10.3x7.5mm, Pitch 1.27mm, IPC Medium Density)
footprint DW16_L (SOIC, 16-Leads, Body 10.3x7.5mm, Pitch 1.27mm, IPC High Density)
footprint DW16_M (SOIC, 16-Leads, Body 10.3x7.5mm, Pitch 1.27mm, IPC Low Density)
pins: 1 ISNS (oc) "Output of the current-sense comparator. Open-Collector.", 2 ISNSM (in) "Negative input of the current-sense comparator.", 3 ISNSP (in) "Positive input of the current-sense comparator.", 4 IFB (in) "Input for the current-regulating loop. External resistor between IN and IFB sets the charging current value.", 5 IN (power) "Supply voltage pin. Connect to external DC source.", 6 GND (power) "Ground terminal.", 7 ~{PGOOD} (oc) "Open-collector output, indicates supply status at IN pin. Active low.", 8 BSTOP (in) "Control input. Taking this pin from low to high transitions the charger from Boost Mode to Float Mode. Internally pulled up through a 10uA current source.", 9 STAT2 (hiz) "Open-collector status outputs. See table below.", 10 STAT1 (hiz) "Open-collector status outputs. See table below.", 11 PRE-CHG (out) "Can be used to trickle-charge the battery till its voltage rises to a safe value. PRE-CHG will source current as long as the control voltage on the CE pin is below VREF. If using, connect to battery pack through external (See Datasheet)", 12 CE (in) "Charge enable control. If the voltage on the CE pin is below VREF, the driver transistor will be off and the PRE-CHG pin will source current.", 13 VFB (in) "Voltage feedback pin. Connect to battery through external resistive divider.", 14 COMP (io) "Compensation terminal for voltage loop. Connect a capacitor from this pin to GND.", 15 DRVE (out) "Emitter of the internal (NPN) driver transistor.", 16 DRVC (in) "Collector of the internal (NPN) driver transistor."

## BQ24450DWTR
designator U?
Integrated Charge Controller for Lead-Acid Batteries, 5 V, 16-pin SOIC (DW), Green (RoHS & no Sb/Br); PartNumber: BQ24450DWTR; Manufacturer: Texas Instruments; Lead Acid: N; SubFamily: Battery Charge Management; Vin(Min)(V): 5; DatasheetVersion: SLUS929C; PackageVersion: revG, Jan-2011; PackageReference: DW16; PackageDescription: 16-Pin Small Outline Integrated Circuit, 10.3 x 7.5 mm, Pitch 1.27 mm Pitch; Supplier 1: Digi-Key; Supplier Part Number 1: 296-24367-2-ND; Supplier Part Number 3: 296-24367-6-ND; Eco-Plan: Green (RoHS & no Sb/Br); Li-Ion: N; Li-Polymer: N; NiCd: N; NiMH: N; Over Voltage Protection: N; Mounting Technology: Surface Mount; Code_JEDEC: MS-013-AA; ComponentLink1Description: Datasheet; ComponentLink1URL: http://www.ti.com/general/docs/lit/getliterature.tsp?genericPartNumber=BQ24450&fileType=pdf
footprint DW16_N (SOIC, 16-Leads, Body 10.3x7.5mm, Pitch 1.27mm, IPC Medium Density)
footprint DW16_L (SOIC, 16-Leads, Body 10.3x7.5mm, Pitch 1.27mm, IPC High Density)
footprint DW16_M (SOIC, 16-Leads, Body 10.3x7.5mm, Pitch 1.27mm, IPC Low Density)
pins: 1 ISNS (oc) "Output of the current-sense comparator. Open-Collector.", 2 ISNSM (in) "Negative input of the current-sense comparator.", 3 ISNSP (in) "Positive input of the current-sense comparator.", 4 IFB (in) "Input for the current-regulating loop. External resistor between IN and IFB sets the charging current value.", 5 IN (power) "Supply voltage pin. Connect to external DC source.", 6 GND (power) "Ground terminal.", 7 ~{PGOOD} (oc) "Open-collector output, indicates supply status at IN pin. Active low.", 8 BSTOP (in) "Control input. Taking this pin from low to high transitions the charger from Boost Mode to Float Mode. Internally pulled up through a 10uA current source.", 9 STAT2 (hiz) "Open-collector status outputs. See table below.", 10 STAT1 (hiz) "Open-collector status outputs. See table below.", 11 PRE-CHG (out) "Can be used to trickle-charge the battery till its voltage rises to a safe value. PRE-CHG will source current as long as the control voltage on the CE pin is below VREF. If using, connect to battery pack through external (See Datasheet)", 12 CE (in) "Charge enable control. If the voltage on the CE pin is below VREF, the driver transistor will be off and the PRE-CHG pin will source current.", 13 VFB (in) "Voltage feedback pin. Connect to battery through external resistive divider.", 14 COMP (io) "Compensation terminal for voltage loop. Connect a capacitor from this pin to GND.", 15 DRVE (out) "Emitter of the internal (NPN) driver transistor.", 16 DRVC (in) "Collector of the internal (NPN) driver transistor."

## BQ24600RVAR
designator U?
Standalone Synchronous Switch-Mode Charge Controller, 5 V, -40 to 85 degC, 16-pin VQFN (RVA), Green (RoHS & no Sb/Br); PartNumber: BQ24600RVAR; Manufacturer: Texas Instruments; Lead Acid: N; SubFamily: Battery Charge Management; Vin(Min)(V): 5; DatasheetVersion: SLUS891A; PackageVersion: revC, May-2011; PackageReference: RVA16-2140X2140TP; PackageDescription: 16-Pin Plastic Quad Flatpack No-Lead, 3.5 x 3.5 mm Body, 0.5 mm Pitch, Exposed Pad; Supplier 1: Digi-Key; Supplier Part Number 1: BQ24600RVAR-ND; Supplier Part Number 3: 595-BQ24600RVAR; Eco-Plan: Green (RoHS & no Sb/Br); Li-Ion: N; Li-Polymer: N; NiCd: N; NiMH: N; Over Voltage Protection: N; Mounting Technology: Surface Mount; ComponentLink1Description: Datasheet; ComponentLink1URL: http://www.ti.com/general/docs/lit/getliterature.tsp?genericPartNumber=BQ24600&fileType=pdf
footprint RVA16-2140X2140TP (QFN, 16-Leads, Body 3.5x3.5mm, Pitch 0.5mm, Thermal Pad 2.14x2.14mm, TI Recommended)
pins: 1 VCC (power) "IC power positive supply. Connect, through a 10-ohm resistor to the common-source (diode-OR) point: source of high-side P-channel MOSFET and source of reverse-blocking power P-channel MOSFET. Or connect through a 10-ohm (See Datasheet)", 2 CE (in) "Charge-enable active-HIGH logic input. HI enables charge. LO disables charge. It has an internal 1Mohm pull-down resistor.", 3 STAT (oc) "Open-drain charge status pin to indicate various charger operation (See Table 3)", 4 TS (in) "Temperature qualification voltage input for battery pack negative temperature coefficient thermistor. Program the hot and cold temperature window with a resistor divider from VREF to TS to GND.", 5 ~{PG} (oc) "Open-drain power-good status output. The transistor turns on when a valid VCC is detected. It is turned off in the sleep mode. P\G\ can be used to drive an LED or communicate with a host processor. It can be used to drive (See Datasheet)", 6 VREF (out) "3.3-V regulated voltage output. Place a 1-uF ceramic capacitor from VREF to the GND pin close to the IC. This voltage could be used for programming of voltage and current regulation and for programming the TS threshold.", 7 ISET (in) "Charge current set input. The voltage of ISET pin programs the charge current regulation, pre-charge current and termination current set-point.", 8 VFB (in) "Output voltage analog feedback adjustment. Connect the output of a resistive voltage divider from the battery terminals to this node to adjust the output battery regulation voltage.", 9 SRN (in) "Charge-current sense resistor, negative input. A 0.1-uF ceramic capacitor is placed from SRN to SRP to provide differential-mode filtering. An optional 0.1-uF ceramic capacitor is placed from SRN pin to GND for common-mode (See Datasheet)", 10 SRP (in) "Charge-current sense resistor, positive input. A 0.1-uF ceramic capacitor is placed from SRN to SRP to provide differential-mode filtering. A 0.1-uF ceramic capacitor is placed from SRP pin to GND for common-mode filtering.", 11 GND (power) "Low-current sensitive analog/digital ground. On PCB layout, connect with thermal pad underneath the IC.", 12 REGN (power) "PWM low-side driver positive 6-V supply output. Connect a 1-uF ceramic capacitor from REGN to the PGND pin, close to the IC. Use for low-side driver and high-side driver bootstrap voltage by connecting a small-signal (See Datasheet)", 13 LODRV "PWM low-side driver output. Connect to the gate of the low-side power MOSFET with a short trace.", 14 PH (power) "PWM high-side driver negative supply. Connect to the phase-switching node (junction of the low-side power MOSFET drain, high-side power MOSFET source, and output inductor).", 15 HIDRV "PWM high-side driver output. Connect to the gate of the high-side power MOSFET with a short trace.", 16 BTST (power) "PWM high-side driver negative supply. Connect the 0.1-uF bootstrap capacitor from PH to BTST, and a bootstrap Schottky diode from REGN to BTST.", 17 EP (power) "Exposed pad beneath the IC. Always solder thermal pad to the board, and have vias on the thermal pad plane star-connecting to GND and ground plane for high-current power converter. It also serves as a thermal pad to (See Datasheet)"

## BQ24600RVAT
designator U?
Standalone Synchronous Switch-Mode Charge Controller, 5 V, -40 to 85 degC, 16-pin VQFN (RVA), Green (RoHS & no Sb/Br); PartNumber: BQ24600RVAT; Manufacturer: Texas Instruments; Lead Acid: N; SubFamily: Battery Charge Management; Vin(Min)(V): 5; DatasheetVersion: SLUS891A; PackageVersion: revC, May-2011; PackageReference: RVA16-2140X2140TP; PackageDescription: 16-Pin Plastic Quad Flatpack No-Lead, 3.5 x 3.5 mm Body, 0.5 mm Pitch, Exposed Pad; Supplier 1: Digi-Key; Supplier Part Number 1: 296-27208-2-ND; Supplier Part Number 3: 296-27208-6-ND; Eco-Plan: Green (RoHS & no Sb/Br); Li-Ion: N; Li-Polymer: N; NiCd: N; NiMH: N; Over Voltage Protection: N; Mounting Technology: Surface Mount; ComponentLink1Description: Datasheet; ComponentLink1URL: http://www.ti.com/general/docs/lit/getliterature.tsp?genericPartNumber=BQ24600&fileType=pdf
footprint RVA16-2140X2140TP (QFN, 16-Leads, Body 3.5x3.5mm, Pitch 0.5mm, Thermal Pad 2.14x2.14mm, TI Recommended)
pins: 1 VCC (power) "IC power positive supply. Connect, through a 10-ohm resistor to the common-source (diode-OR) point: source of high-side P-channel MOSFET and source of reverse-blocking power P-channel MOSFET. Or connect through a 10-ohm (See Datasheet)", 2 CE (in) "Charge-enable active-HIGH logic input. HI enables charge. LO disables charge. It has an internal 1Mohm pull-down resistor.", 3 STAT (oc) "Open-drain charge status pin to indicate various charger operation (See Table 3)", 4 TS (in) "Temperature qualification voltage input for battery pack negative temperature coefficient thermistor. Program the hot and cold temperature window with a resistor divider from VREF to TS to GND.", 5 ~{PG} (oc) "Open-drain power-good status output. The transistor turns on when a valid VCC is detected. It is turned off in the sleep mode. P\G\ can be used to drive an LED or communicate with a host processor. It can be used to drive (See Datasheet)", 6 VREF (out) "3.3-V regulated voltage output. Place a 1-uF ceramic capacitor from VREF to the GND pin close to the IC. This voltage could be used for programming of voltage and current regulation and for programming the TS threshold.", 7 ISET (in) "Charge current set input. The voltage of ISET pin programs the charge current regulation, pre-charge current and termination current set-point.", 8 VFB (in) "Output voltage analog feedback adjustment. Connect the output of a resistive voltage divider from the battery terminals to this node to adjust the output battery regulation voltage.", 9 SRN (in) "Charge-current sense resistor, negative input. A 0.1-uF ceramic capacitor is placed from SRN to SRP to provide differential-mode filtering. An optional 0.1-uF ceramic capacitor is placed from SRN pin to GND for common-mode (See Datasheet)", 10 SRP (in) "Charge-current sense resistor, positive input. A 0.1-uF ceramic capacitor is placed from SRN to SRP to provide differential-mode filtering. A 0.1-uF ceramic capacitor is placed from SRP pin to GND for common-mode filtering.", 11 GND (power) "Low-current sensitive analog/digital ground. On PCB layout, connect with thermal pad underneath the IC.", 12 REGN (power) "PWM low-side driver positive 6-V supply output. Connect a 1-uF ceramic capacitor from REGN to the PGND pin, close to the IC. Use for low-side driver and high-side driver bootstrap voltage by connecting a small-signal (See Datasheet)", 13 LODRV "PWM low-side driver output. Connect to the gate of the low-side power MOSFET with a short trace.", 14 PH (power) "PWM high-side driver negative supply. Connect to the phase-switching node (junction of the low-side power MOSFET drain, high-side power MOSFET source, and output inductor).", 15 HIDRV "PWM high-side driver output. Connect to the gate of the high-side power MOSFET with a short trace.", 16 BTST (power) "PWM high-side driver negative supply. Connect the 0.1-uF bootstrap capacitor from PH to BTST, and a bootstrap Schottky diode from REGN to BTST.", 17 EP (power) "Exposed pad beneath the IC. Always solder thermal pad to the board, and have vias on the thermal pad plane star-connecting to GND and ground plane for high-current power converter. It also serves as a thermal pad to (See Datasheet)"